# Altium schematic symbol library NG2092.SchLib: 31 symbols (part 2 of 2)
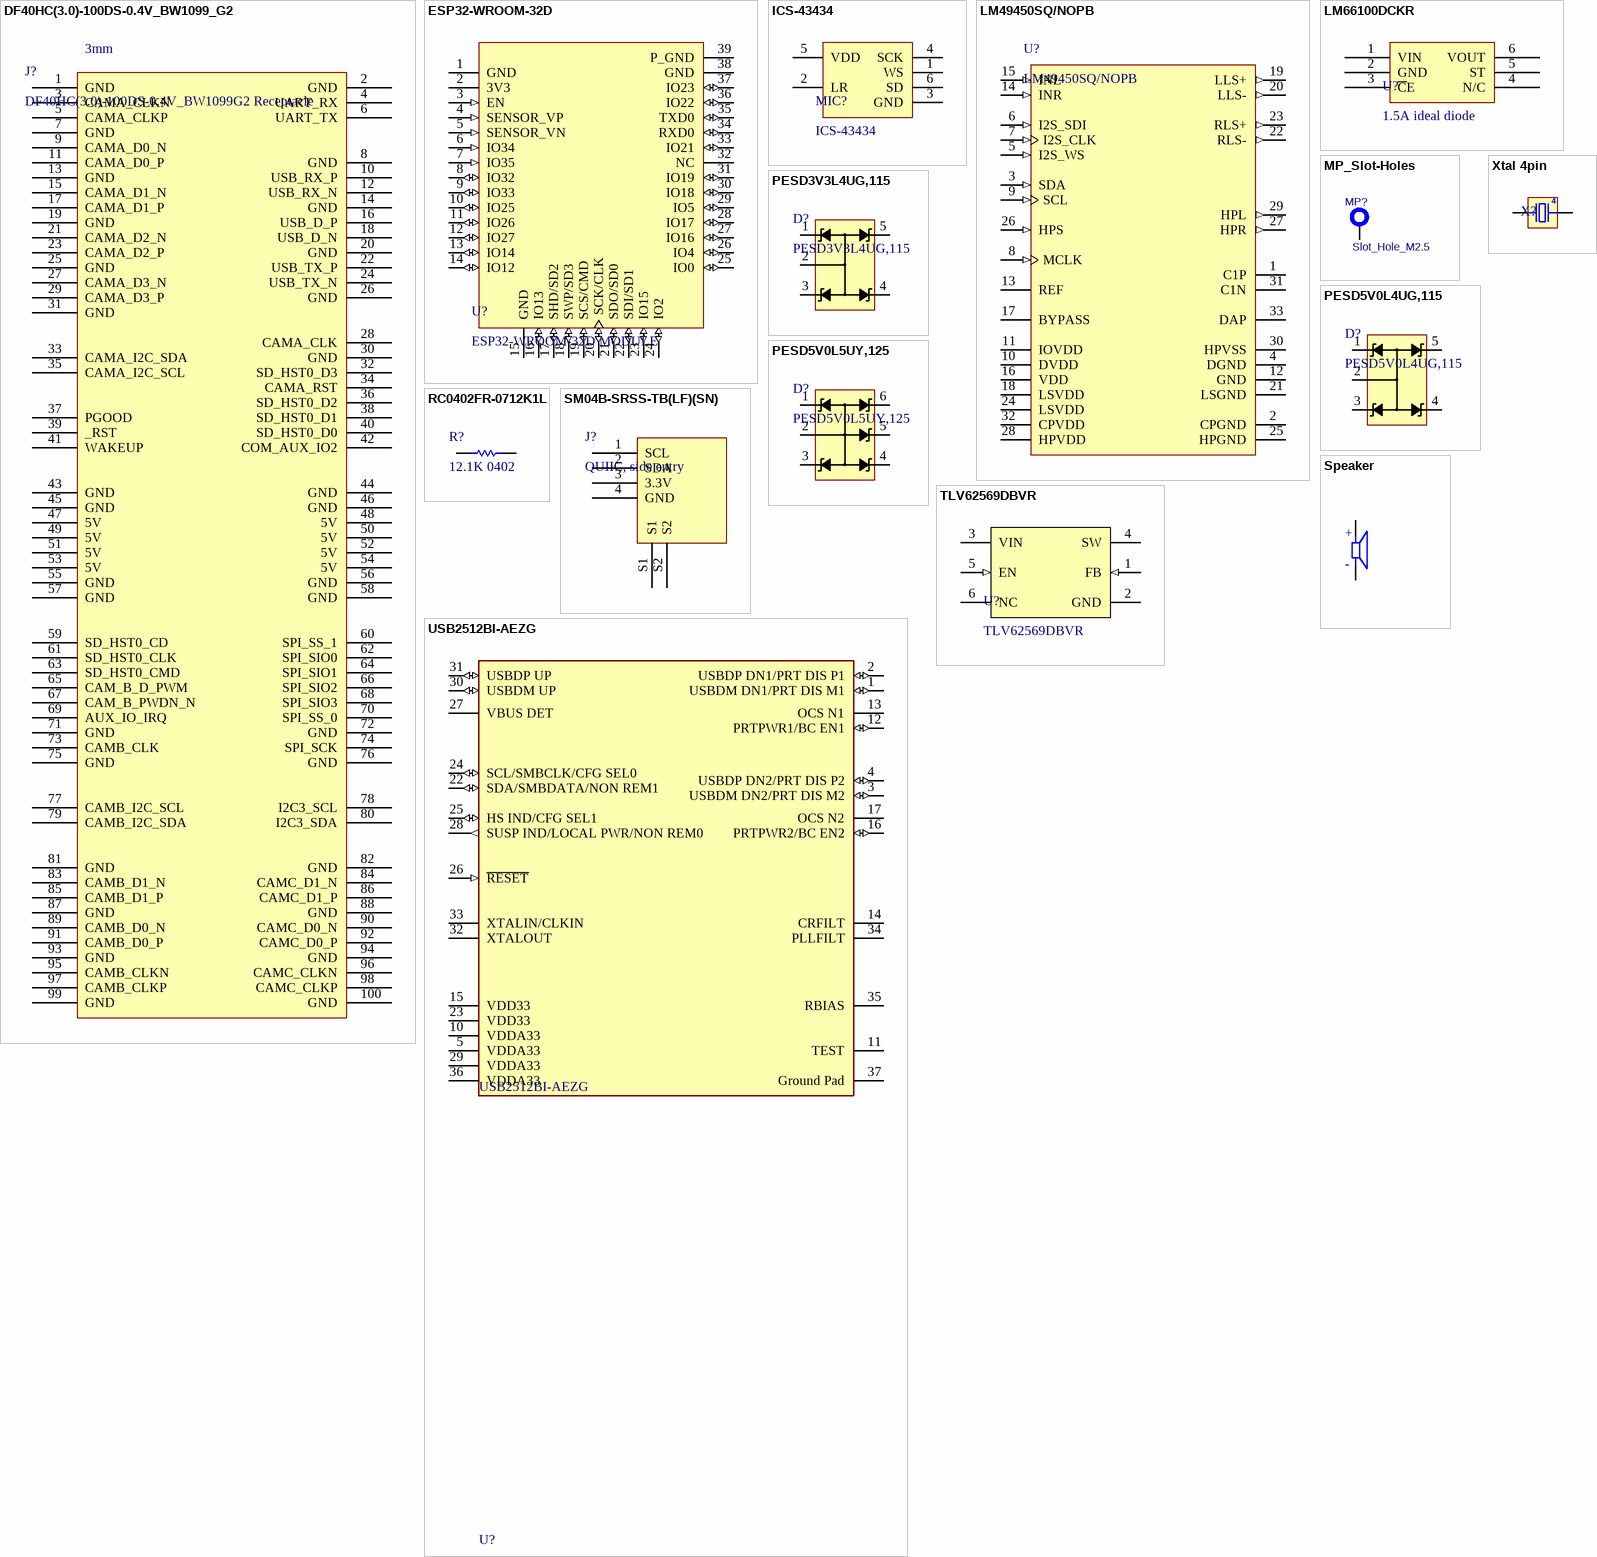
[diagram p3: symbols DF40HC(3.0)-100DS-0.4V_BW1099_G2 to Xtal 4pin]

## SM04B-SRSS-TB(LF)(SN)
designator J?, comment QUIIC, side entry
Connector Header, Side Entry, SR Series, 4 Position, 1.00mm, 50V, Surface Mount, Tin, Natural; Manufacturer 1: JST; Manufacturer Part Number 1: SM04B-SRSS-TB(LF)(SN); Number of Positions: 4; Connector Type: Male Pin; Contact Resistance: 40mR; Max Current Rating: 1A; Pitch: 0.039inch; Supplier 1: Digi-Key; Category: Connectors; Stock 1: 79203; Pricing 1: 1=0.61000, 10=0.56900, 100=0.43600, 500=0.37914, 1000=0.31279 (USD); Mount: Surface Mount; Contact Material: Copper Alloy; Contact Plating: Tin; Color: Natural; Housing Material: Polyamide; Housing Color: Beige; Min Operating Temperature: -25°C; Max Operating Temperature: 85°C; Number of Rows: 1; Termination: Solder; Packaging: Tape and Reel; Orientation: Right Angle; Number of Contacts: 4; Max Voltage Rating (AC): 50V; Max Voltage Rating (DC): 50V; Depth: 4.95mm; Lead Free: Lead Free; ComponentLink1URL: https://datasheet.ciiva.com/26894/getdatasheetpartid-499363-26894945.pdf?src-supplier=Verical; ComponentLink1Description: https://datasheet.ciiva.com/26894/getdatasheetpartid-499363-26894945.pdf?src-supplier=Verical; ComponentLink2URL: https://datasheet.ciiva.com/26894/getdatasheetpartid-640736-26894676.pdf?src-supplier=Verical; ComponentLink2Description: https://datasheet.ciiva.com/26894/getdatasheetpartid-640736-26894676.pdf?src-supplier=Verical; ComponentLink3URL: https://datasheet.ciiva.com/16487/jstsm04b-srss-tb-lf-sn-16487222.pdf?src-supplier=Future+Electronics; ComponentLink3Description: https://datasheet.ciiva.com/16487/jstsm04b-srss-tb-lf-sn-16487222.pdf?src-supplier=Future+Electronics; ComponentLink4URL: http://datasheet.octopart.com/SM04B-SRSS-TB%28LF%29%28SN%29-JST-datasheet-65849987.pdf?src-supplier=Newark; ComponentLink4Description: http://datasheet.octopart.com/SM04B-SRSS-TB%28LF%29%28SN%29-JST-datasheet-65849987.pdf?src-supplier=Newark; ComponentLink5URL: http://datasheet.octopart.com/SM04B-SRSS-TB%28LF%29%28SN%29-JST-datasheet-8330955.pdf?src-supplier=Upverter; ComponentLink5Description: http://datasheet.octopart.com/SM04B-SRSS-TB%28LF%29%28SN%29-JST-datasheet-8330955.pdf?src-supplier=Upverter; ComponentLink6URL: http://datasheet.octopart.com/SM04B-SRSS-TB%28LF%29%28SN%29-JST-datasheet-12489618.pdf?src-supplier=Upverter; ComponentLink6Description: http://datasheet.octopart.com/SM04B-SRSS-TB%28LF%29%28SN%29-JST-datasheet-12489618.pdf?src-supplier=Upverter; ComponentLink7URL: http://datasheet.octopart.com/SM04B-SRSS-TB%28LF%29%28SN%29-JST-datasheet-119911.pdf?src-supplier=Digi-Key; ComponentLink7Description: http://datasheet.octopart.com/SM04B-SRSS-TB%28LF%29%28SN%29-JST-datasheet-119911.pdf?src-supplier=Digi-Key; ComponentLink8URL: http://datasheet.octopart.com/SM04B-SRSS-TB%28LF%29%28SN%29-JST-datasheet-120967.pdf?src-supplier=Future+Electronics; ComponentLink8Description: http://datasheet.octopart.com/SM04B-SRSS-TB%28LF%29%28SN%29-JST-datasheet-120967.pdf?src-supplier=Future+Electronics; Supplier 2: Digi-Key; Supplier 3: Newark; Supplier 4: Future Electronics; Supplier Part Number 1: 455-1804-1-ND; Supplier Part Number 2: 455-1804-2-ND; Supplier Part Number 3: 87R0314; Supplier Part Number 4: SM04B-SRSS-TB(LF)(SN)-CUTT
footprint SM04B-SRSS-TB(LF)(SN) (Connector Header Surface Mount, Right Angle 4 position 0.039" (1.00mm))
pins: 1 SCL, 2 SDA, 3 3.3V, 4 GND, S1, S2

## Speaker
designator LS?, comment CMS-16093-078S-67
16 x 9 mm, Rectangular Frame, 0.7 W, 8 Ohm, Neodymium Magnet, Mylar Cone, IP67; Manufacturer: CUI Devices; Manufacturer Part Number: CMS-16093-078S-67; Supplier 1: Mouser; Supplier Part Number 1: 490-CMS-16093-078S67
footprint SPKR_CMS-16093-078S-67
pins: N, P
text: +; -

## TLV62569DBVR
designator U?
Switching Regulator, 2A, 1500kHz Switching Freq-Max, PDSO5; Manufacturer: Texas Instruments; Package Body Material: Plastic; Control Technique: PULSE WIDTH MODULATION; Max Input Voltage: 5.5V; Min Input Voltage: 2.5V; Nominal Input Voltage: 5V; Number of Functions: 1; Switcher Configuration: BUCK; Switching Frequency-Max: 1.5MHz; Supplier 1: Digi-Key; RoHS: Yes; Category: Voltage Regulators - Switching; Package Code: LSSOP; Number of Pins: 5; Package Shape: Rectangular; Terminal Finish: Nickel; Min Operating Temperature: -40°C; Max Operating Temperature: 125°C; JESD-609 Code: e4; Analog IC - Other Type: SWITCHING REGULATOR; JESD-30 Code: R-PDSO-G5; Moisture Sensitivity Level: 1; Package Style: SMALL OUTLINE, LOW PROFILE, SHRINK PITCHMeter; Surface Mount: Yes; Terminal Form: Gull Wing; Terminal Position: DUAL; Width: 1.6mm; Height - Seated (Max): 1.45mm; Terminal Pitch: 0.95mm; Temperature Grade: AUTOMOTIVE; REACH SVHC: Yes; RoHS Compliant: Yes; ComponentLink1URL: https://www.ti.com:443/lit/ds/symlink/tlv62569.pdf?src-supplier=IHS+Markit; ComponentLink1Description: https://www.ti.com:443/lit/ds/symlink/tlv62569.pdf?src-supplier=IHS+Markit; ComponentLink2URL: http://www.ti.com/lit/ds/symlink/tlv62569.pdf?src-supplier=Farnell; ComponentLink2Description: http://www.ti.com/lit/ds/symlink/tlv62569.pdf?src-supplier=Farnell; ComponentLink3URL: http://www.ti.com/lit/ds/symlink/tlv62569.pdf?src-supplier=Digi-Key; ComponentLink3Description: http://www.ti.com/lit/ds/symlink/tlv62569.pdf?src-supplier=Digi-Key; Supplier Part Number 1: 296-47360-1-ND; Pricing 1: 1=0,66000, 10=0,57700, 25=0,54200, 100=0,44250, 250=0,41100, 500=0,34980, 1000=0,28875 (USD); Manufacturer Part Number: TLV62569DBVR
footprint SOT95P270X130-6N (SOT23, 6-Leads, Body 3,1x3,2mm (max), Pitch 0,95mm, IPC Medium Density)
pins: 1 FB (in), 2 GND (power), 3 VIN (power), 4 SW (power), 5 EN (in), 6 NC

## USB2512BI-AEZG
designator U?
IC USB 2.0 2PORT HUB CTLR 36QFN; Manufacturer 1: Microchip; Supplier 1: RSComponents; RoHS: Yes; Category: USB Interface ICs; ComponentLink1URL: https://datasheet.ciiva.com/16366/usb2512bi-aezg-16366528.pdf?src-supplier=Future+Electronics; ComponentLink1Description: https://datasheet.ciiva.com/16366/usb2512bi-aezg-16366528.pdf?src-supplier=Future+Electronics; ComponentLink2URL: https://datasheet.ciiva.com/23943/1754405-23943458.pdf?src-supplier=Newark; ComponentLink2Description: https://datasheet.ciiva.com/23943/1754405-23943458.pdf?src-supplier=Newark; ComponentLink3URL: https://datasheet.ciiva.com/14820/251xb1-14820225.pdf?src-supplier=Arrow+Electronics; ComponentLink3Description: https://datasheet.ciiva.com/14820/251xb1-14820225.pdf?src-supplier=Arrow+Electronics; ComponentLink4URL: https://datasheet.ciiva.com/26344/651861-da-01-en-usb-ctlr-usb2512bi-aezg-qfn-36-6x6-mcp-26344422.pdf?src-supplier=Conrad; ComponentLink4Description: https://datasheet.ciiva.com/26344/651861-da-01-en-usb-ctlr-usb2512bi-aezg-qfn-36-6x6-mcp-26344422.pdf?src-supplier=Conrad; Supplier Part Number 1: 8251127; Manufacturer Part Number 1: USB2512BI-AEZG; Stock 1: 1; Pricing 1: 5=2,82800, 25=2,74400, 100=2,64300 (USD)
footprint QFN50P600X600X100_HS-37N (QFN, 36-Leads, Body 6,00x6,00mm, Pitch 0,50mm, Thermal Pad 3,70x3,70mm, IPC Medium Density)
pins: 1 USBDM DN1/PRT DIS M1 (io), 2 USBDP DN1/PRT DIS P1 (io), 3 USBDM DN2/PRT DIS M2 (io), 4 USBDP DN2/PRT DIS P2 (io), 5 VDDA33 (power), 6 NC hidden, 7 NC hidden, 8 NC hidden, 9 NC hidden, 10 VDDA33 (power), 11 TEST, 12 PRTPWR1/BC EN1 (io), 13 OCS N1, 14 CRFILT, 15 VDD33 (power), 16 PRTPWR2/BC EN2 (io), 17 OCS N2, 18 NC hidden, 19 NC hidden, 20 NC hidden, 21 NC hidden, 22 SDA/SMBDATA/NON REM1 (io), 23 VDD33 (power), 24 SCL/SMBCLK/CFG SEL0 (io), 25 HS IND/CFG SEL1 (io), 26 ~{RESET} (in), 27 VBUS DET (power), 28 SUSP IND/LOCAL PWR/NON REM0 (out), 29 VDDA33 (power), 30 USBDM UP (io), 31 USBDP UP (io), 32 XTALOUT, 33 XTALIN/CLKIN, 34 PLLFILT, 35 RBIAS, 36 VDDA33 (power), 37 Ground Pad (power)

## Xtal 4pin
designator X?  (value not drawn)
CRYSTAL xxMHz
footprint MCSJK-7U-24.00-12-30-60-B-30
pins: 1 OSC1, 2 GND hidden, 3 OSC2, 4 GND hidden